# Altium schematic symbol library 65310113722.SchLib: 1 symbol
Pins are listed as number, name and electrical type; pins without a type are passive.

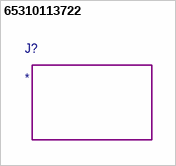
[diagram p0: symbol 65310113722]

## 65310113722
designator J?